# Altium schematic symbol library LM317T IC Regulator.SchLib: 1 symbol
Pins are listed as number, name and electrical type; pins without a type are passive.

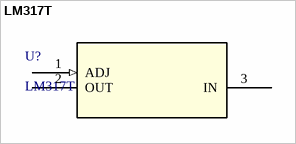
[diagram p0: symbol LM317T]

## LM317T
designator U?
IC REG LIN POS ADJ 1.5A TO220AB; VENDOR: STMicroelectronics; Built_By: EMA_UL_Team; C: Copyright (C) 2015 Accelerated Designs. All rights reserved; MANUFACTURER_PART_NUMBER: LM317T; Value: Value; Type: Type; RefDes: RefDes
footprint TO-220 (IC REG LIN POS ADJ 1.5A TO220AB)
pins: 1 ADJ (in), 2 OUT (power), 3 IN (power)